# Altium schematic symbol library AMS1117-5.0.SchLib: 1 symbol
Pins are listed as number, name and electrical type; pins without a type are passive.

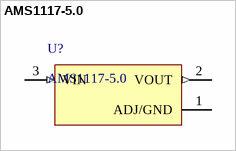
[diagram p0: symbol AMS1117-5.0]

## AMS1117-5.0
designator U?
IC REG LINEAR 5.1V 1A SOT-223-3L; Manufacturer: Revvo; Supplier: DigiKey; Supplier Part Number: 5272-AMS1117-5.0TR-ND; Manufacturer Part Number: AMS1117-5.0; Category: LDO Voltage Regulators; Stock: 12500; Pricing: 2500=0.12353, 5000=0.11968, 7500=0.11775, 12500=0.11561, 17500=0.11436, 25000=0.11316 (USD)
footprint SOT229P700X180-4N-5.0
footprint SOT229P700X180-4N-5.0
pins: 1 ADJ/GND (power), 2 VOUT (out), 3 VIN (in)